# Altium schematic symbol library JMP2.SchLib: 1 symbol
Pins are listed as number, name and electrical type; pins without a type are passive.

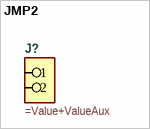
[diagram p0: symbol JMP2]

## JMP2
designator J?
=Description
pins: 1, 2